# EAGLE library part MCU_ATTINY861 (library akita)
Microchip's ATtiny861
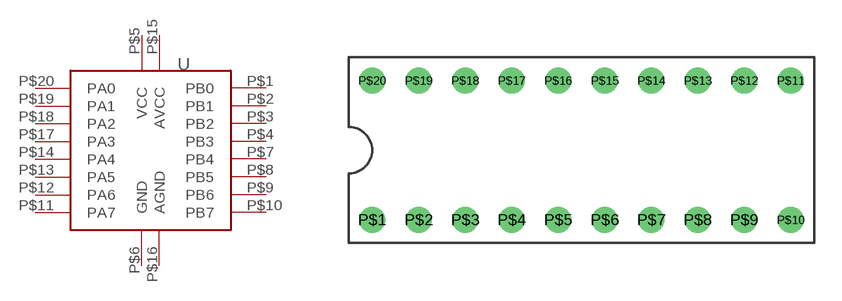
[diagram p195: symbol with the pads of DIP20; footprint DIP20]

Designator prefix U

## MCU_ATTINY861PU  [DIP20]
P$1  PB0
P$2  PB1
P$3  PB2
P$4  PB3
P$5  VCC
P$6  GND
P$7  PB4
P$8  PB5
P$9  PB6
P$10  PB7
P$11  PA7
P$12  PA6
P$13  PA5
P$14  PA4
P$15  AVCC
P$16  AGND
P$17  PA3
P$18  PA2
P$19  PA1
P$20  PA0

## Footprint DIP20 (pad centres in mm)
drill 0.9: P$1 -11.43,-3.81; P$2 -8.89,-3.81; P$3 -6.35,-3.81; P$4 -3.81,-3.81; P$5 -1.27,-3.81; P$6 1.27,-3.81; P$7 3.81,-3.81; P$8 6.35,-3.81; P$9 8.89,-3.81; P$10 11.43,-3.81; P$11 11.43,3.81; P$12 8.89,3.81; P$13 6.35,3.81; P$14 3.81,3.81; P$15 1.27,3.81; P$16 -1.27,3.81; P$17 -3.81,3.81; P$18 -6.35,3.81; P$19 -8.89,3.81; P$20 -11.43,3.81